# EAGLE library part HEADER_1X6 (library 1)
Header 6P
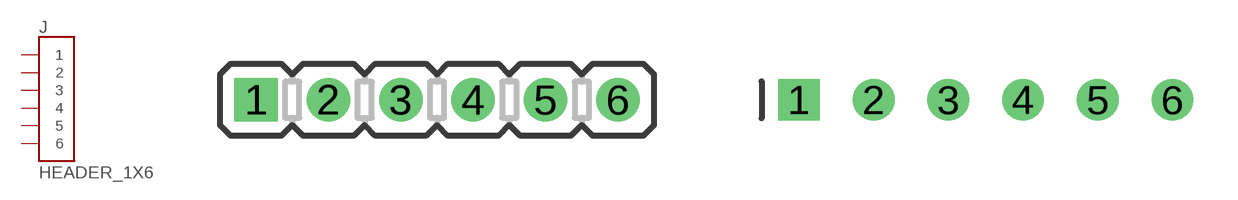
[diagram p17: symbol with the pads of 1X6_TH; footprints 1X6_TH, 1X6_TH_TC]

Designator prefix J

## HEADER_1X6  [1X6_TH]
1  1
2  2
3  3
4  4
5  5
6  6

## HEADER_1X6TC  [1X6_TH_TC]
Pads as for 1X6_TH

## HEADER_1X6PLUG  [IC6]
1  1
1A  1
2  2
2A  2
3  3
3A  3
4  4
4A  4
5  5
5A  5
6  6
6A  6

## HEADER_1X6PLUGSMALL  [IC6_SMALL]
Pads as for IC6

## HEADER_1X6OSTVN06A150  [OSTVN06A150]
Pads as for 1X6_TH

## Footprint 1X6_TH (pad centres in mm)
Header 6P, 0.1"
drill 0.914 pad 1.524 square: 1 -6.35,0
drill 0.914 pad 1.524: 2 -3.81,0; 3 -1.27,0; 4 1.27,0; 5 3.81,0; 6 6.35,0

## Footprint 1X6_TH_TC (pad centres in mm)
6-pin Header, .1" small thermocouple holes
drill 0.711 pad 1.422 square: 1 -6.35,0
drill 0.711 pad 1.422: 2 -3.81,0; 3 -1.27,0; 4 1.27,0; 5 3.81,0; 6 6.35,0

## Footprint IC6 (pad centres in mm)
drill 1.397 long: 1 -12.7,2.54; 1A -12.7,-2.54; 2 -7.62,2.54; 2A -7.62,-2.54; 3 -2.54,2.54; 3A -2.54,-2.54; 4 2.54,2.54; 4A 2.54,-2.54; 5 7.62,2.54; 5A 7.62,-2.54; 6 12.7,2.54; 6A 12.7,-2.54

## Footprint IC6_SMALL (pad centres in mm)
drill 1.397 pad 2.54: 1 -12.7,2.54; 1A -12.7,-2.54; 2 -7.62,2.54; 2A -7.62,-2.54; 3 -2.54,2.54; 3A -2.54,-2.54; 4 2.54,2.54; 4A 2.54,-2.54; 5 7.62,2.54; 5A 7.62,-2.54; 6 12.7,2.54; 6A 12.7,-2.54

## Footprint OSTVN06A150 (pad centres in mm)
drill 1.3: 1 -6.35,0; 2 -3.81,0; 3 -1.27,0; 4 1.27,0; 5 3.81,0; 6 6.35,0